# Altium schematic symbol library Schlib1.SchLib: 19 symbols
Pins are listed as number, name and electrical type; pins without a type are passive.

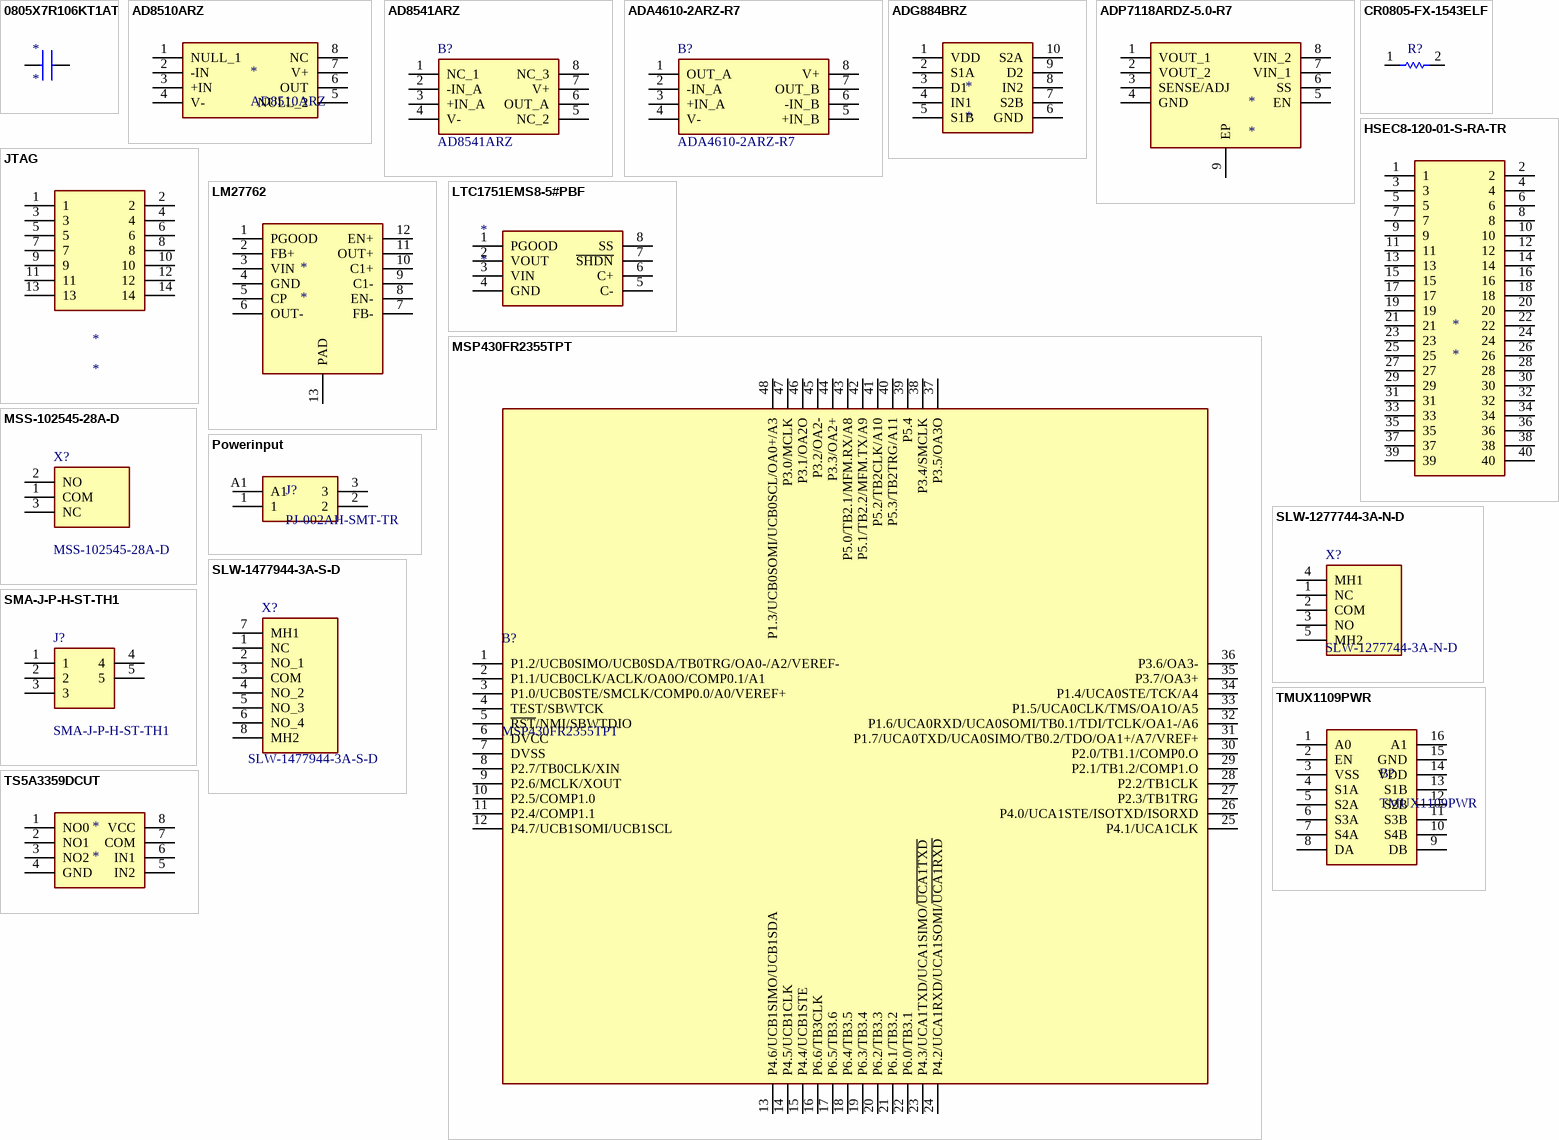
[diagram p0: symbols 0805X7R106KT1AT to TS5A3359DCUT]

## 0805X7R106KT1AT
designator *
footprint capacitor
pins: 1, 2

## AD8510ARZ
designator *
footprint AD8510ARZ
pins: 1 NULL_1, 2 -IN, 3 +IN, 4 V-, 5 NULL_2, 6 OUT, 7 V+, 8 NC

## AD8541ARZ
designator B?
CMOS Rail-to-Rail General-Purpose Amplifiers; Manufacturer_Name: Analog Devices; Geometry.Height: 1.75mm; Mouser Part Number: 584-AD8541ARZ; Mouser Price/Stock: https://www.mouser.co.uk/ProductDetail/Analog-Devices/AD8541ARZ?qs=%2FtpEQrCGXCzcwV1djJTedQ%3D%3D; Manufacturer_Part_Number: AD8541ARZ; Datasheet Link: https://www.analog.com/AD8541/datasheet
footprint SOIC127P600X175-8N
pins: 1 NC_1, 2 -IN_A, 3 +IN_A, 4 V-, 5 NC_2, 6 OUT_A, 7 V+, 8 NC_3

## ADA4610-2ARZ-R7
designator B?
Low Noise, Precision, Rail-to-Rail Output, JFET Dual Op Amp +/-5 V to +/-15 V 40C to +125C; Manufacturer_Name: Analog Devices; Geometry.Height: 1.75mm; Mouser Part Number: 584-ADA4610-2ARZ-R7; Mouser Price/Stock: https://www.mouser.co.uk/ProductDetail/Analog-Devices/ADA4610-2ARZ-R7?qs=BpaRKvA4VqEBfMREioRxEg%3D%3D; Manufacturer_Part_Number: ADA4610-2ARZ-R7; Datasheet Link: https://www.analog.com/ADA4610-2/datasheet
footprint SOIC127P600X175-8N
pins: 1 OUT_A, 2 -IN_A, 3 +IN_A, 4 V-, 5 +IN_B, 6 -IN_B, 7 OUT_B, 8 V+

## ADG884BRZ
designator *
pins: 1 VDD, 2 S1A, 3 D1, 4 IN1, 5 S1B, 6 GND, 7 S2B, 8 IN2, 9 D2, 10 S2A

## ADP7118ARDZ-5.0-R7
designator *
footprint ADP7118ARDZ-5.0-R7
pins: 1 VOUT_1, 2 VOUT_2, 3 SENSE/ADJ, 4 GND, 5 EN, 6 SS, 7 VIN_1, 8 VIN_2, 9 EP

## CR0805-FX-1543ELF
designator R?
footprint resistor
pins: 1, 2

## HSEC8-120-01-S-RA-TR
designator *
HSEC8-120-01-S-RA-TR
footprint PCBComponent_1
pins: 1, 2, 3, 4, 5, 6, 7, 8, 9, 10, 11, 12, 13, 14, 15, 16, 17, 18, 19, 20, 21, 22, 23, 24, 25, 26, 27, 28, 29, 30, 31, 32, 33, 34, 35, 36, 37, 38, 39, 40

## JTAG
designator *
footprint CONN_7024614xx_MOL
pins: 1, 2, 3, 4, 5, 6, 7, 8, 9, 10, 11, 12, 13, 14

## LM27762
designator *
footprint LM27762
pins: 1 PGOOD, 2 FB+ (power), 3 VIN (power), 4 GND, 5 CP (power), 6 OUT- (power), 7 FB- (power), 8 EN-, 9 C1- (power), 10 C1+ (power), 11 OUT+ (power), 12 EN+, 13 PAD

## LTC1751EMS8-5#PBF
designator *
footprint PCBComponent_1 - duplicate
pins: 1 PGOOD, 2 VOUT, 3 VIN, 4 GND, 5 C-, 6 C+, 7 ~{SHDN}, 8 SS

## MSP430FR2355TPT
designator B?
16-bit Microcontrollers - MCU 24MHz 105C ULP Microcontroller With 32 KB FRAM, 4 KB SRAM, 44 IO, 12-bit ADC, 12-bit DACs, OpAmp/PGA 48-LQFP -40 to 105; Manufacturer_Name: Texas Instruments; Geometry.Height: 1.6mm; Mouser Part Number: 595-MSP430FR2355TPT; Mouser Price/Stock: https://www.mouser.co.uk/ProductDetail/Texas-Instruments/MSP430FR2355TPT?qs=gTYE2QTfZfTjQOKK%2F%2Fw59A%3D%3D; Manufacturer_Part_Number: MSP430FR2355TPT; Datasheet Link: https://datasheet.datasheetarchive.com/originals/distributors/DKDS41/DSANUWW0029426.pdf
footprint QFP50P900X900X160-48N
pins: 1 P1.2/UCB0SIMO/UCB0SDA/TB0TRG/OA0-/A2/VEREF-, 2 P1.1/UCB0CLK/ACLK/OA0O/COMP0.1/A1, 3 P1.0/UCB0STE/SMCLK/COMP0.0/A0/VEREF+, 4 TEST/SBWTCK, 5 ~{RST}/NMI/SBWTDIO, 6 DVCC, 7 DVSS, 8 P2.7/TB0CLK/XIN, 9 P2.6/MCLK/XOUT, 10 P2.5/COMP1.0, 11 P2.4/COMP1.1, 12 P4.7/UCB1SOMI/UCB1SCL, 13 P4.6/UCB1SIMO/UCB1SDA, 14 P4.5/UCB1CLK, 15 P4.4/UCB1STE, 16 P6.6/TB3CLK, 17 P6.5/TB3.6, 18 P6.4/TB3.5, 19 P6.3/TB3.4, 20 P6.2/TB3.3, 21 P6.1/TB3.2, 22 P6.0/TB3.1, 23 P4.3/UCA1TXD/UCA1SIMO/~{UCA1TXD}, 24 P4.2/UCA1RXD/UCA1SOMI/~{UCA1RXD}, 25 P4.1/UCA1CLK, 26 P4.0/UCA1STE/ISOTXD/ISORXD, 27 P2.3/TB1TRG, 28 P2.2/TB1CLK, 29 P2.1/TB1.2/COMP1.O, 30 P2.0/TB1.1/COMP0.O, 31 P1.7/UCA0TXD/UCA0SIMO/TB0.2/TDO/OA1+/A7/VREF+, 32 P1.6/UCA0RXD/UCA0SOMI/TB0.1/TDI/TCLK/OA1-/A6, 33 P1.5/UCA0CLK/TMS/OA1O/A5, 34 P1.4/UCA0STE/TCK/A4, 35 P3.7/OA3+, 36 P3.6/OA3-, 37 P3.5/OA3O, 38 P3.4/SMCLK, 39 P5.4, 40 P5.3/TB2TRG/A11, 41 P5.2/TB2CLK/A10, 42 P5.1/TB2.2/MFM.TX/A9, 43 P5.0/TB2.1/MFM.RX/A8, 44 P3.3/OA2+, 45 P3.2/OA2-, 46 P3.1/OA2O, 47 P3.0/MCLK, 48 P1.3/UCB0SOMI/UCB0SCL/OA0+/A3

## MSS-102545-28A-D
designator X?
10 x 2.5 x 7.8 mm, 2.8 mm Raised Slide Actuator, Through Hole, Miniature Slide Switch; Manufacturer_Name: Same Sky; Geometry.Height: 7.9mm; Mouser Part Number: 490-MSS102545-28A-D; Mouser Price/Stock: https://www.mouser.co.uk/ProductDetail/CUI-Devices/MSS-102545-28A-D?qs=DRkmTr78QAQ33Pd9J32MOg%3D%3D; Manufacturer_Part_Number: MSS-102545-28A-D; Datasheet Link: https://www.sameskydevices.com/product/resource/mss-102545-28a-d.pdf
footprint MSS10254528AD
pins: 1 COM, 2 NO, 3 NC

## Powerinput
designator J?, comment PJ-002AH-SMT-TR
footprint PWRPJ
pins: 1, 2, 3, A1

## SLW-1277744-3A-N-D
designator X?
12.7 x 7.7 x 4.4 mm, 3 mm Raised Slide Actuator, Through Hole, Slide Switch; Manufacturer_Name: Same Sky; Geometry.Height: 8mm; Mouser Part Number: 179-SLW12777443AND; Mouser Price/Stock: https://www.mouser.co.uk/ProductDetail/Same-Sky/SLW-1277744-3A-N-D?qs=IKkN%2F947nfDtIMt0dYyHhg%3D%3D; Manufacturer_Part_Number: SLW-1277744-3A-N-D; Datasheet Link: https://www.sameskydevices.com/product/resource/supplyframepdf/slw-1277744-3a-n-d.pdf
footprint SLW12777443AND
pins: 1 NC, 2 COM, 3 NO, 4 MH1, 5 MH2

## SLW-1477944-3A-S-D
designator X?
14.7 x 7.9 x 4.4 mm, 3 mm Raised Slide Actuator, Through Hole, Slide Switch; Manufacturer_Name: Same Sky; Geometry.Height: 8mm; Mouser Part Number: 179-SLW14779443ASD; Mouser Price/Stock: https://www.mouser.co.uk/ProductDetail/CUI-Devices/SLW-1477944-3A-S-D?qs=IKkN%2F947nfD1CC%2FffJ%2FTNA%3D%3D; Manufacturer_Part_Number: SLW-1477944-3A-S-D; Datasheet Link: https://www.sameskydevices.com/product/resource/supplyframepdf/slw-1477944-3a-s-d.pdf
footprint SLW14779443ASD
pins: 1 NC, 2 NO_1, 3 COM, 4 NO_2, 5 NO_3, 6 NO_4, 7 MH1, 8 MH2

## SMA-J-P-H-ST-TH1
designator J?
SAMTEC - SMA-J-P-H-ST-TH1 - RF COAXIAL, SMA JACK, 50 OHM, PCB; Geometry.Height: 9.55mm; Mouser Part Number: 200-SMAJPHSTTH1; Mouser Price/Stock: https://www.mouser.co.uk/ProductDetail/Samtec/SMA-J-P-H-ST-TH1?qs=bkXRl3BLxbHdaAB2Qwy6zw%3D%3D; Manufacturer_Name: SAMTEC; Manufacturer_Part_Number: SMA-J-P-H-ST-TH1; Datasheet Link: http://suddendocs.samtec.com/prints/sma-j-p-x-st-th1-mkt.pdf
footprint SMAJPHSTTH1
pins: 1, 2, 3, 4, 5

## TMUX1109PWR
designator B?
footprint TMUX1109PWR
pins: 1 A0, 2 EN, 3 VSS, 4 S1A, 5 S2A, 6 S3A, 7 S4A, 8 DA, 9 DB, 10 S4B, 11 S3B, 12 S2B, 13 S1B, 14 VDD, 15 GND, 16 A1

## TS5A3359DCUT
designator *
footprint TS5A3359DCUT
pins: 1 NO0, 2 NO1, 3 NO2, 4 GND, 5 IN2, 6 IN1, 7 COM, 8 VCC